# Altium footprint library AMASS.PcbLib: 6 footprints
Each footprint in its own frame and in the unit in brackets; x right, y up, seen from the top. Pads: shape width x height; smd on the part's side, far side on the other; paste and mask are expansions set on the pad; w line width, h text height; cw(c..) or ccw(c..) is an arc to the next point about the centre after c.
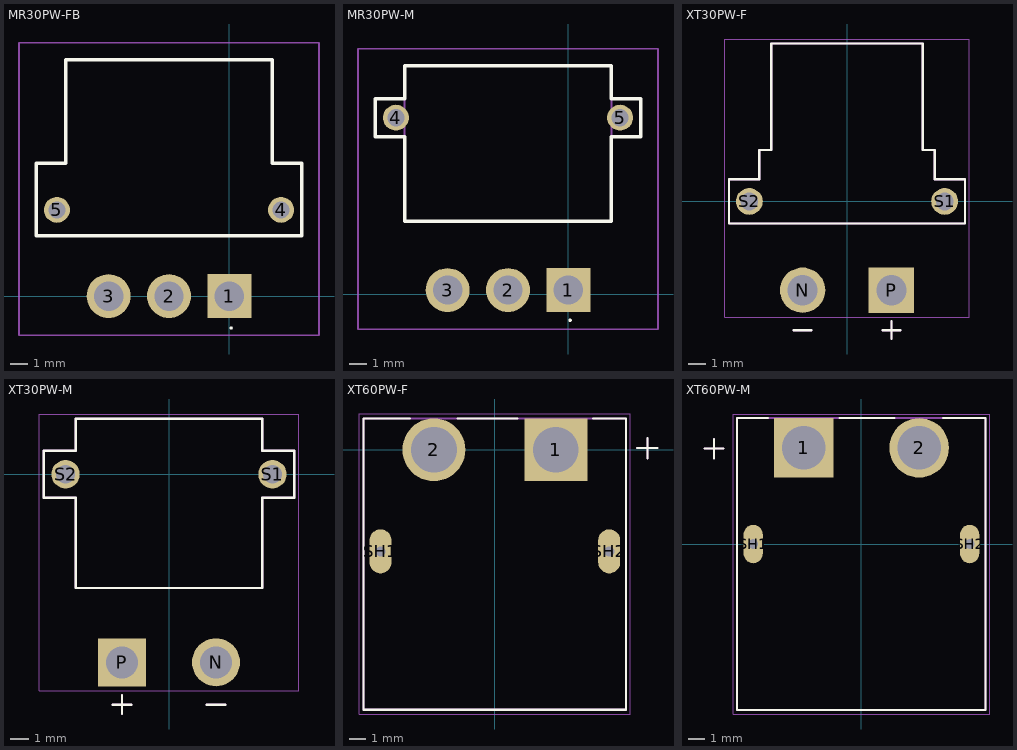
[diagram p0: the footprints below, top view; thin cyan lines are the x and y axes]

## MR30PW-FB [mm]
pads (5):
  rect 2.55x2.55 hole 1.7: 1(0,0)
  round 2.55 hole 1.7: 2(-3.5,0) 3(-7,0)
  round 1.5 hole 1: 4(3,5) 5(-10,5)
Top Overlay:
  lines w0.1: 0.1,-1.9 cw(c0.1,-1.85) 0.1,-1.8 cw(c0.1,-1.85) 0.1,-1.9
  lines w0.2: -11.2,3.5 -3.5,3.5 4.2,3.5 4.2,7.7 2.5,7.7 2.5,13.7 -9.5,13.7 -9.5,7.7 -11.2,7.7 -11.2,3.5
Mechanical 13:
  lines w0.1: -11.2,3.5 -3.5,3.5 4.2,3.5 4.2,7.7 2.5,7.7 2.5,13.7 -9.5,13.7 -9.5,7.7 -11.2,7.7 -11.2,3.5
Mechanical 15:
  lines w0.1: -12.2,-2.275 -12.2,14.7 5.2,14.7 5.2,-2.275 -12.2,-2.275
3D body "MR30PW-FB.stp": height 5.83, standoff -1.62, extent -11.2,-0.89 4.2,14.11

## MR30PW-M [mm]
pads (5):
  rect 2.55x2.55 hole 1.7: 1(0,0.254)
  round 2.55 hole 1.7: 2(-3.5,0.254) 3(-7,0.254)
  round 1.5 hole 1: 4(-10,10.254) 5(3,10.254)
Top Overlay:
  lines w0.1: 0.1,-1.546 cw(c0.1,-1.496) 0.1,-1.446 cw(c0.1,-1.496) 0.1,-1.546
  lines w0.2: -11.2,9.154 -11.2,11.354 -9.5,11.354 -9.5,13.254 2.5,13.254 2.5,11.354 4.2,11.354 4.2,9.154 2.5,9.154 2.5,4.254 -3.5,4.254 -9.5,4.254 -9.5,9.154 -11.2,9.154
Mechanical 13:
  lines w0.1: -9.5,9.154 -11.2,9.154 -11.2,11.354 -9.5,11.354 ; 2.5,9.154 4.2,9.154 4.2,11.354 2.5,11.354 ; -9.5,4.254 2.5,4.254 2.5,13.254 -9.5,13.254 -9.5,4.254
Mechanical 15:
  lines w0.1: -12.2,-2.021 5.2,-2.021 5.2,14.254 -12.2,14.254 -12.2,-2.021
3D body "MR30PW-M v2.step": height 5.05, standoff -1.95, extent -11.129,-0.615 4.271,13.335

## XT30PW-F [mm]
pads (4):
  round 2.55 hole 1.7: N(-2.5,-5)
  rect 2.55x2.55 / inner round 2.55 / far side rect 2.55x2.55 hole 1.7: P(2.5,-5)
  round 1.508 hole 1: S1(5.5,0) S2(-5.5,0)
Top Overlay:
  lines w0.127: -3,-7.25 -2,-7.25 ; 2,-7.25 3,-7.25 ; 2.5,-7.75 2.5,-6.75 ; -6.65,-1.25 -6.65,1.25 -4.95,1.25 -4.95,2.9 -4.27,2.9 -4.27,8.9 4.27,8.9 4.27,2.9 4.95,2.9 4.95,1.25 6.65,1.25 6.65,-1.25 -6.65,-1.25
Mechanical 13:
  lines w0.127: -3,-7.25 -2,-7.25 ; 2,-7.25 3,-7.25 ; 2.5,-7.75 2.5,-6.75 ; -6.65,-1.25 -6.65,1.25 -4.95,1.25 -4.95,2.9 -4.27,2.9 -4.27,8.9 4.27,8.9 4.27,2.9 4.95,2.9 4.95,1.25 6.65,1.25 6.65,-1.25 -6.65,-1.25
Mechanical 15:
  lines w0.05: -6.9,-6.525 -6.9,9.15 6.9,9.15 6.9,-6.525 -6.9,-6.525
3D body "step_temp.STEP": height 5, standoff -2, extent -6.65,-6 6.65,8.9

## XT30PW-M [mm]
pads (4):
  round 2.55 hole 1.7: N(2.5,-10)
  rect 2.55x2.55 / inner round 2.55 / far side rect 2.55x2.55 hole 1.7: P(-2.5,-10)
  round 1.508 hole 1: S1(5.5,0) S2(-5.5,0)
Top Overlay:
  lines w0.127: -3,-12.25 -2,-12.25 ; -2.5,-12.75 -2.5,-11.75 ; 2,-12.25 3,-12.25 ; -6.65,-1.25 -4.95,-1.25 -4.95,-6.05 4.95,-6.05 4.95,-1.25 6.65,-1.25 6.65,1.25 4.95,1.25 4.95,2.95 -4.95,2.95 -4.95,1.25 -6.65,1.25 -6.65,-1.25
Mechanical 13:
  lines w0.127: -3,-12.25 -2,-12.25 ; -2.5,-12.75 -2.5,-11.75 ; 2,-12.25 3,-12.25 ; -6.65,-1.25 -4.95,-1.25 -4.95,-6.05 4.95,-6.05 4.95,-1.25 6.65,-1.25 6.65,1.25 4.95,1.25 4.95,2.95 -4.95,2.95 -4.95,1.25 -6.65,1.25 -6.65,-1.25
Mechanical 15:
  lines w0.05: -6.9,-11.525 -6.9,3.2 6.9,3.2 6.9,-11.525 -6.9,-11.525
3D body "step_temp.STEP": height 5, standoff -2, extent -6.65,-11 6.65,2.95

## XT60PW-F [mm]
pads (4):
  rect 3.716x3.716 / inner round 3.716 / far side rect 3.716x3.716 hole 2.7 mask+0.102: 1(3.6,0)
  round 3.716 hole 2.7 mask+0.102: 2(-3.6,0)
  oval 1.3x2.6 hole 0.6 square mask+0.102: SH1(-6.75,-6) SH2(6.75,-6)
Top Overlay:
  lines w0.127: -5.01,1.85 -7.75,1.85 -7.75,-15.35 7.75,-15.35 7.75,1.85 5.81,1.85 ; -2.19,1.85 1.34,1.85 ; 8.4,0.1 9.6,0.1 ; 9,-0.5 9,0.7
Mechanical 13:
  lines w0.127: 8.4,0.1 9.6,0.1 ; 9,-0.5 9,0.7 ; -7.75,-15.35 7.75,-15.35 7.75,1.85 -7.75,1.85 -7.75,-15.35
Mechanical 15:
  lines w0.05: -8,-15.6 8,-15.6 8,2.11 -8,2.11 -8,-15.6
3D body "step_temp.STEP": height 8.4, standoff -2.55, extent -7.75,-15.35 7.75,1.85

## XT60PW-M [mm]
pads (4):
  rect 3.716x3.716 / inner round 3.716 / far side rect 3.716x3.716 hole 2.7 mask+0.102: 1(-3.6,6)
  round 3.716 hole 2.7 mask+0.102: 2(3.6,6)
  oval 1.2x2.4 hole 0.6 square mask+0.102: SH1(-6.75,0) SH2(6.75,0)
Top Overlay:
  lines w0.127: -9.8,5.95 -8.6,5.95 ; -9.2,5.35 -9.2,6.55 ; -5.828,7.85 -7.75,7.85 -7.75,-10.35 7.75,-10.35 7.75,7.85 5.078,7.85 ; -1.372,7.85 2.072,7.85
Mechanical 13:
  lines w0.127: -9.8,5.95 -8.6,5.95 ; -9.2,5.35 -9.2,6.55 ; -7.75,-10.35 7.75,-10.35 7.75,7.85 -7.75,7.85 -7.75,-10.35
Mechanical 15:
  lines w0.05: -8,-10.6 8,-10.6 8,8.11 -8,8.11 -8,-10.6
3D body "step_temp.STEP": height 8.4, standoff -2.55, extent -7.75,-10.35 7.75,7.85